# Altium footprint library CN1509.PcbLib: 1 footprints
Each footprint in its own frame and in the unit in brackets; x right, y up, seen from the top. Pads: shape width x height; smd on the part's side, far side on the other; paste and mask are expansions set on the pad; w line width, h text height; cw(c..) or ccw(c..) is an arc to the next point about the centre after c.
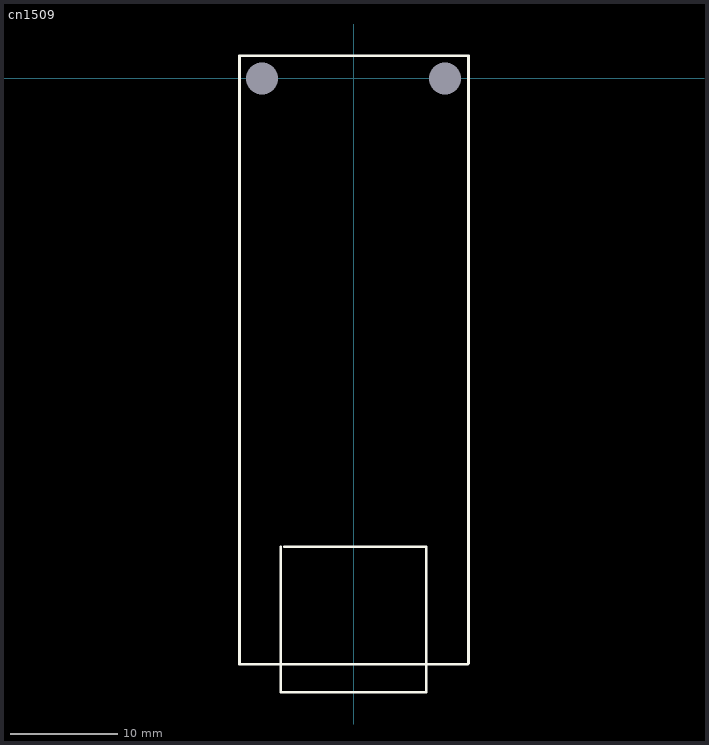
[diagram p0: the footprint, top view; thin cyan lines are the x and y axes]

## cn1509 [mm]
pads (2):
  round 0 hole 3 unplated: 4(-8.5,0) 5(8.5,0)
Top Overlay:
  lines w0.254: -6.75,-43.5 -6.75,-57 6.75,-57 6.75,-43.5 -6.436,-43.5 ; -10.6,-54.4 10.599,-54.4 10.684,-54.314 10.684,2.1 -10.6,2.1 -10.6,-54.4
3D body "usb ras.STEP": height 12.6, standoff 0.5, extent -10.524,-56.488 10.676,2.012